# Altium integrated library WINBOND.IntLib: 1 symbol
Pins are listed as number, name and electrical type; pins without a type are passive.

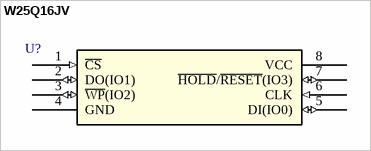
[diagram p0: symbol W25Q16JV]

## W25Q16JV
designator U?
3V 16M-BIT SERIAL FLASH MEMORY WITH DUAL/QUAD SPI; Manufacturer_Part_Number: W25Q16JVXXXX; Vendor: Winbond; Built_By: EMA_Anthony; Copyright: Copyright (C) 2018 Accelerated Designs. All rights reserved; RefDes: RefDes; Type: DEV; Value: Value
footprint SOIC-8_150MIL (SOIC, 8-Leads, Body 4.85x3.90mm, Pitch 1.27mm, IPC Medium Density)
footprint SOIC-8_208MIL (SOIC, 8-Leads, Body 5.28x5.28mm, Pitch 1.27mm, IPC Medium Density)
footprint USON-8_2X3MM (SON, 8-Leads, Body 2.00x3.00mm, Pitch 0.50mm, Thermal Pad 1.60x0.20mm, IPC Medium Density)
footprint USON-8_4X3MM (SON, 8-Leads, Body 4.00x3.00mm, Pitch 0.80mm, Thermal Pad 2.40x0.20mm, IPC Medium Density)
pins: 1 ~{CS} (in), 2 DO(IO1) (io), 3 ~{WP}(IO2) (io), 4 GND, 5 DI(IO0) (io), 6 CLK (in), 7 ~{HOLD}/~{RESET}(IO3) (io), 8 VCC (power)